# Altium footprint library TRANSISTORS.PcbLib: 6 footprints
Each footprint in its own frame and in the unit in brackets; x right, y up, seen from the top. Pads: shape width x height; smd on the part's side, far side on the other; paste and mask are expansions set on the pad; w line width, h text height; cw(c..) or ccw(c..) is an arc to the next point about the centre after c.
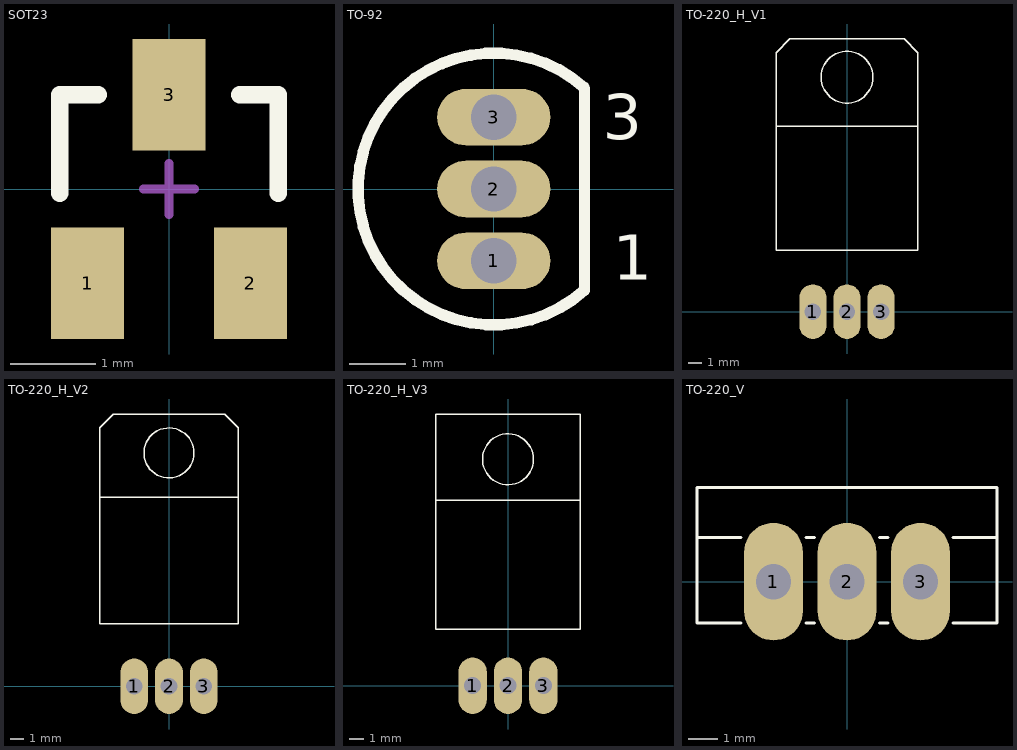
[diagram p0: the footprints below, top view; thin cyan lines are the x and y axes]

## SOT23 [mm] "3 Pin"
height 2
pads (3):
  rect 0.85x1.3 smd: 1(-0.95,-1.1) 2(0.95,-1.1) 3(0,1.1)
Top Overlay:
  lines w0.2: -1.275,-0.05 -1.275,1.1 -0.825,1.1 ; 0.825,1.1 1.275,1.1 1.275,-0.05
Pick&Place:
  lines w0.1: -0.3,0 0.3,0 ; 0,-0.3 0,0.3
3D body: height 0.5, standoff 0.35, extent -0.25,0.7 0.25,0.95
3D body: height 0.5, standoff 0, extent -0.25,0.95 0.25,1
3D body: height 0.15, standoff 0, extent -0.25,1 0.25,1.25
3D body: height 1.1, standoff 0.1, extent -1.5,-0.7 1.5,0.7
3D body: height 0.15, standoff 0, extent 0.7,-1.25 1.2,-1
3D body: height 0.5, standoff 0, extent 0.7,-1 1.2,-0.95
3D body: height 0.5, standoff 0.35, extent 0.7,-0.95 1.2,-0.7
3D body: height 0.15, standoff 0, extent -1.2,-1.25 -0.7,-1
3D body: height 0.5, standoff 0, extent -1.2,-1 -0.7,-0.95
3D body: height 0.5, standoff 0.35, extent -1.2,-0.95 -0.7,-0.7

## TO-92 [mm] "TO, Flat Index; 3 In-Line, Axial Leads; Body Dia. 4.8mm"
height 5
pads (3):
  oval 2x1 hole 0.8: 1(0,-1.27) 2(0,0) 3(0,1.27)
Top Overlay:
  lines w0.2: 1.593,1.795 ccw(c0,0) 1.594,-1.794 ; 1.6,-1.775 1.6,1.775
  text "1" at 2.1,-1.6 h0.8
  text "3" at 1.925,0.875 h0.8
3D body: height 6, standoff 1, extent -2.412,-2.412 1.607,2.412
3D body: height 6, standoff 1, extent 1.6,-1.775 1.625,1.775
3D body: height 1, standoff 0, extent -0.175,-0.225 0.175,0.225
3D body: height 1, standoff 0, extent -0.175,-1.5 0.175,-1.05
3D body: height 1, standoff 0, extent -0.175,1.05 0.175,1.5
3D body: height 1, standoff 0, extent -0.175,1.05 0.175,1.5
3D body: height 1, standoff 0, extent -0.175,-0.225 0.175,0.225
3D body: height 1, standoff 0, extent -0.175,-1.5 0.175,-1.05

## TO-220_H_V1 [mm] "3 lead, pitch 2.5, horizontal"
height 4.5
pads (3):
  oval 2x4 hole 1.2: 1(-2.5,0) 2(0,0) 3(2.5,0)
Top Overlay:
  circle w0.1: c0,17.2 r1.9
  lines w0.1: -5.2,13.6 5.2,13.6 ; -5.2,4.5 5.2,4.5 5.2,19 4.2,20 -4.2,20 -5.2,19 -5.2,4.5
3D body: height 4.6, standoff 0.05, extent -5.2,4.5 5.2,13.6
3D body: height 1.3, standoff 0, extent -5.2,13.6 0,20
3D body: height 1.3, standoff 0, extent 0,13.6 5.2,20
3D body: height 1.3, standoff 0, extent -3.5,7 3.5,13.6
3D body: height 3.1, standoff 2.5, extent -3.3,0.5 -1.7,4.5
3D body: height 3.1, standoff 2.5, extent -2.9,0 -2.1,0.5
3D body: height 2.8, standoff 0, extent -2.9,-0.3 -2.1,0.3
3D body: height 1.5, standoff 0, extent -2.9,-0.3 -2.1,0.3
3D body: height 3.1, standoff 2.5, extent -2.9,-0.299 -2.1,0.299
3D body: height 3.1, standoff 2.5, extent -0.4,-0.299 0.4,0.299
3D body: height 1.5, standoff 0, extent -0.4,-0.3 0.4,0.3
3D body: height 2.8, standoff 0, extent -0.4,-0.3 0.4,0.3
3D body: height 3.1, standoff 2.5, extent -0.4,0 0.4,0.5
3D body: height 3.1, standoff 2.5, extent -0.8,0.5 0.8,4.5
3D body: height 3.1, standoff 2.5, extent 2.1,-0.299 2.9,0.299
3D body: height 1.5, standoff 0, extent 2.1,-0.3 2.9,0.3
3D body: height 2.8, standoff 0, extent 2.1,-0.3 2.9,0.3
3D body: height 3.1, standoff 2.5, extent 2.1,0 2.9,0.5
3D body: height 3.1, standoff 2.5, extent 1.7,0.5 3.3,4.5

## TO-220_H_V2 [mm] "3 lead, pitch 2.5, horizontal"
height 4.5
pads (3):
  oval 2x4 hole 1.2: 1(-2.5,0) 2(0,0) 3(2.5,0)
Top Overlay:
  circle w0.1: c0,16.8 r1.8
  lines w0.1: -5,13.6 5,13.6 ; -5,4.5 -5,18.6 -4,19.6 4,19.6 5,18.6 5,4.5 -5,4.5
3D body: height 4.5, standoff -3, extent -5,-0.152 5,19.552

## TO-220_H_V3 [mm] "3 lead, pitch 2.5, horizontal"
height 4.5
pads (3):
  oval 2x4 hole 1.2: 1(-2.5,0) 2(0,0) 3(2.5,0)
Top Overlay:
  circle w0.1: c0,16 r1.8
  lines w0.1: -5.1,13.1 5.1,13.1 ; -5.1,4 5.1,4 5.1,19.2 -5.1,19.2 -5.1,4
3D body: height 4.2, standoff -3, extent -5.08,-0.3 5.08,19.19

## TO-220_V [mm] "3 lead, pitch 2.5, vertical"
height 19.5
pads (3):
  oval 2x4 hole 1.2: 1(-2.5,0) 2(0,0) 3(2.5,0)
Top Overlay:
  lines w0.1: -5.1,1.5 -3.6,1.5 ; -3.6,-1.4 -5.1,-1.4 -5.1,3.2 5.1,3.2 5.1,-1.4 3.6,-1.4 ; -1.4,-1.4 -1.1,-1.4 ; -1.4,1.5 -1.1,1.5 ; 1.1,-1.4 1.4,-1.4 ; 1.1,1.5 1.4,1.5 ; 3.6,1.5 5.1,1.5
3D body: height 18.54, standoff -3.81, extent -5.08,-1.372 5.08,3.2